# Altium footprint library 2.54mm_header_vertical_male.PcbLib: 1 footprints
Each footprint in its own frame and in the unit in brackets; x right, y up, seen from the top. Pads: shape width x height; smd on the part's side, far side on the other; paste and mask are expansions set on the pad; w line width, h text height; cw(c..) or ccw(c..) is an arc to the next point about the centre after c.
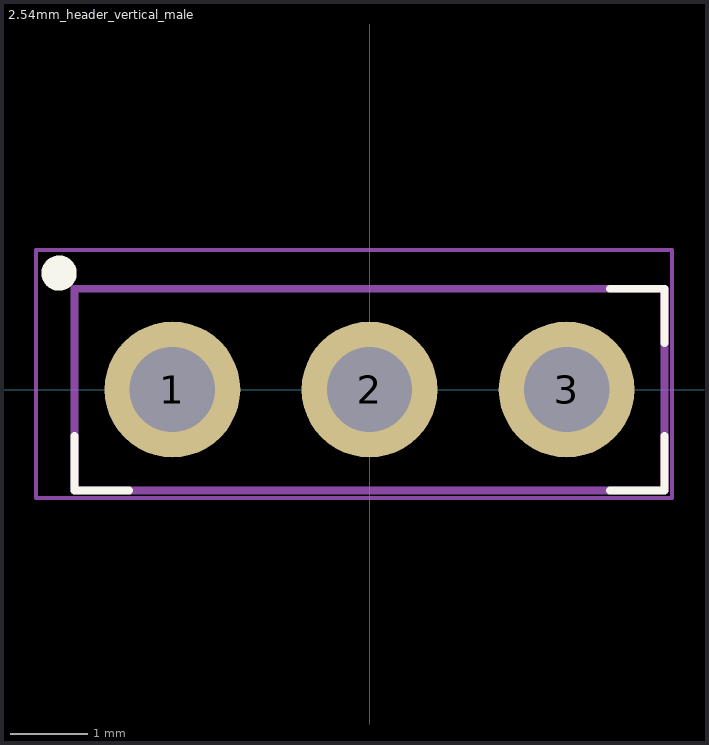
[diagram p0: the footprint, top view; thin cyan lines are the x and y axes]

## 2.54mm_header_vertical_male [mm]
pads (3):
  round 1.75 hole 1.1: 1(-2.54,0) 2(0,0) 3(2.54,0)
Top Overlay:
  circle w0.254: c-4,1.5 r0.1
  lines w0.1: -3.8,-0.6 -3.8,-1.3 -3.1,-1.3 ; 3.1,-1.3 3.8,-1.3 3.8,-0.6 ; 3.1,1.3 3.8,1.3 3.8,0.6
Mechanical 1:
  lines w0.1: -3.8,-1.3 -3.8,1.3 3.8,1.3 3.8,-1.3 -3.8,-1.3
  text ".Designator" at -3.304,-0.293 h0.65
Mechanical 2:
  lines w0.05: -4.3,-1.4 3.9,-1.4 3.9,1.8 -4.3,1.8 -4.3,-1.4
  lines w0.1: -0.5,0 0.5,0 ; 0,-0.5 0,0.5
3D body "Download_STP_61300311121 (rev1).stp": height 8.57, standoff -2.97, extent -3.81,-1.27 3.81,1.27